# Altium schematic symbol library IC.SchLib: 8 symbols
Pins are listed as number, name and electrical type; pins without a type are passive.

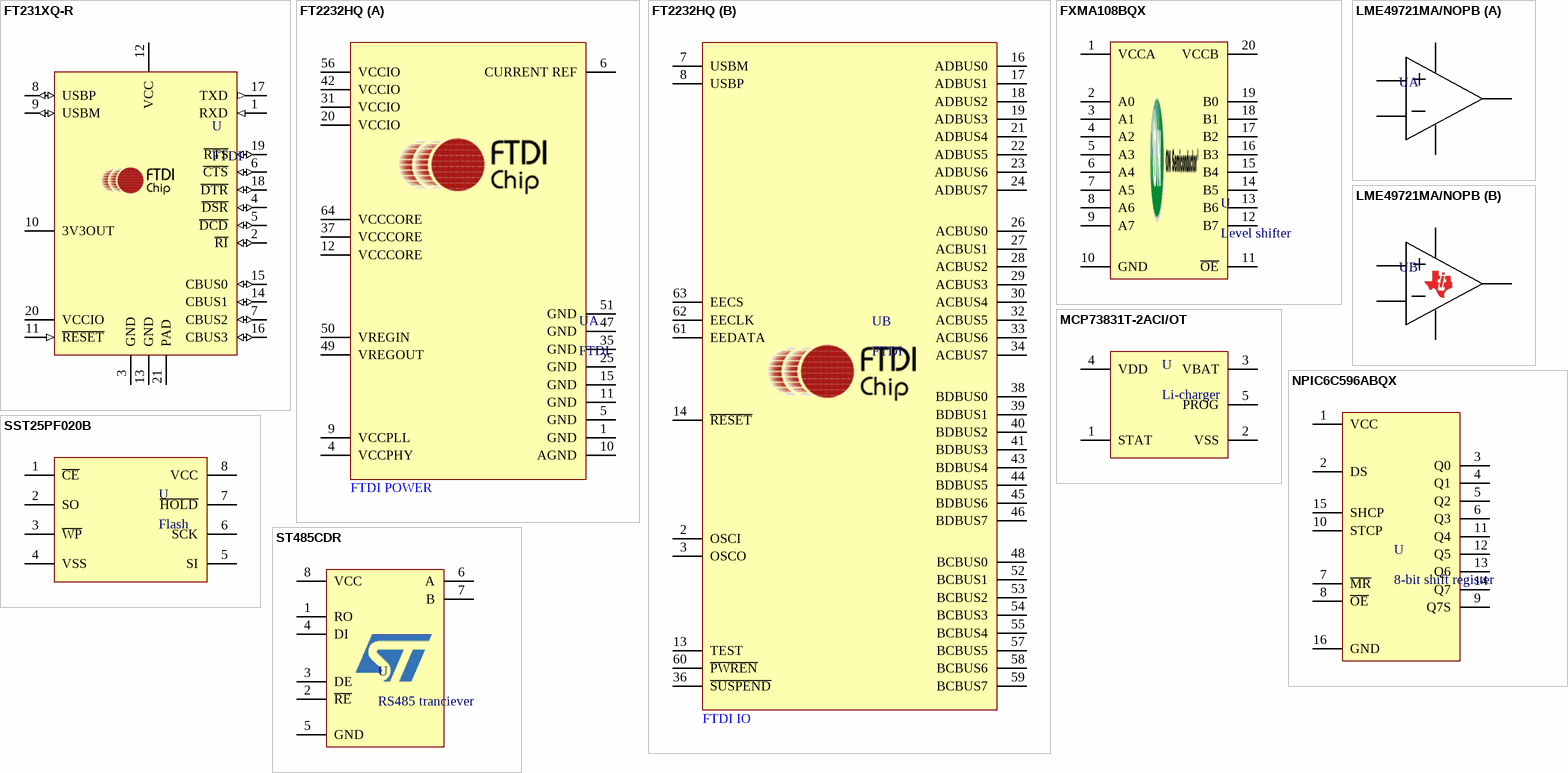
[diagram p0: symbols FT231XQ-R to ST485CDR]

## FT231XQ-R
designator U, comment FTDI
UART to USB converter
footprint FT231XQ-R (QFN, 20-Leads, Body 4.00x4.00mm, Pitch 0.50mm, Thermal Pad 1.98x1.98mm, IPC Medium Density)
pins: 1 RXD (in), 2 ~{RI} (io), 3 GND, 4 ~{DSR} (io), 5 ~{DCD} (io), 6 ~{CTS} (io), 7 CBUS2 (io), 8 USBP (io), 9 USBM (io), 10 3V3OUT, 11 ~{RESET} (in), 12 VCC, 13 GND, 14 CBUS1 (io), 15 CBUS0 (io), 16 CBUS3 (io), 17 TXD (out), 18 ~{DTR} (io), 19 ~{RTS} (io), 20 VCCIO, 21 PAD

## FT2232HQ
designator U, comment FTDI
FT2232HQ
footprint FT2232HQ (QFN, 64-Leads, Body 9.00x9.00mm, Pitch 0.50mm, Thermal Pad 4.35x4.35mm, IPC Medium Density)
part A pins: 1 GND, 4 VCCPHY, 5 GND, 6 CURRENT REF, 9 VCCPLL, 10 AGND, 11 GND, 12 VCCCORE, 15 GND, 20 VCCIO, 25 GND, 31 VCCIO, 35 GND, 37 VCCCORE, 42 VCCIO, 47 GND, 49 VREGOUT, 50 VREGIN, 51 GND, 56 VCCIO, 64 VCCCORE
part B pins: 2 OSCI, 3 OSCO, 7 USBM, 8 USBP, 13 TEST, 14 ~{RESET}, 16 ADBUS0, 17 ADBUS1, 18 ADBUS2, 19 ADBUS3, 21 ADBUS4, 22 ADBUS5, 23 ADBUS6, 24 ADBUS7, 26 ACBUS0, 27 ACBUS1, 28 ACBUS2, 29 ACBUS3, 30 ACBUS4, 32 ACBUS5, 33 ACBUS6, 34 ACBUS7, 36 ~{SUSPEND}, 38 BDBUS0, 39 BDBUS1, 40 BDBUS2, 41 BDBUS3, 43 BDBUS4, 44 BDBUS5, 45 BDBUS6, 46 BDBUS7, 48 BCBUS0, 52 BCBUS1, 53 BCBUS2, 54 BCBUS3, 55 BCBUS4, 57 BCBUS5, 58 BCBUS6, 59 BCBUS7, 60 ~{PWREN}, 61 EEDATA, 62 EECLK, 63 EECS
part A text: FTDI POWER
part B text: FTDI IO

## FXMA108BQX
designator U, comment Level shifter
8-bit bidirectional level shifter
footprint FXMA108BQX (QFN, 20-Leads, Body 2.50x4.50mm, Pitch 0.50mm, Thermal Pad 1.00x2.90mm, IPC Medium Density)
pins: 1 VCCA, 2 A0, 3 A1, 4 A2, 5 A3, 6 A4, 7 A5, 8 A6, 9 A7, 10 GND, 11 ~{OE}, 12 B7, 13 B6, 14 B5, 15 B4, 16 B3, 17 B2, 18 B1, 19 B0, 20 VCCB

## LME49721MA/NOPB
designator U
Audio OP amp, single supply, low voltage
footprint LME49721MA/NOPB (SOIC, 8-Leads, Body 4.91x3.90mm, Pitch 1.27mm, IPC Medium Density)
part A pins: 1 VDD, 2 VDD, 3 VDD, 4 VDD, 8 VDD
part B pins: 4 VDD, 5 VDD, 6 VDD, 7 VDD, 8 VDD
part A text: +; _
part B text: +; _

## MCP73831T-2ACI/OT
designator U, comment Li-charger
Li-Ion Charger IC, Single cell
footprint MCP73831 (SOT23, 5-Leads, Body 2.90x2.70mm, Pitch 0.95mm, IPC Medium Density)
pins: 1 STAT, 2 VSS, 3 VBAT, 4 VDD, 5 PROG

## NPIC6C596ABQX
designator U, comment 8-bit shift register
8-bit shift register, serial to parallel/serial
footprint NPIC6C596ABQX (QFN, 16-Leads, Body 2.50x3.50mm, Pitch 0.50mm, Thermal Pad 1.00x2.00mm, IPC Medium Density)
pins: 1 VCC, 2 DS, 3 Q0, 4 Q1, 5 Q2, 6 Q3, 7 ~{MR}, 8 ~{OE}, 9 Q7S, 10 STCP, 11 Q4, 12 Q5, 13 Q6, 14 Q7, 15 SHCP, 16 GND

## SST25PF020B
designator U, comment Flash
Serial NOR Flash, 2Mbit, 256K x 8bit
footprint SST25PF020B
pins: 1 ~{CE}, 2 SO, 3 ~{WP}, 4 VSS, 5 SI, 6 SCK, 7 ~{HOLD}, 8 VCC

## ST485CDR
designator U, comment RS485 tranciever
footprint ST485CDR (SOIC, 8-Leads, Body 4.90x3.90mm, Pitch 1.27mm, IPC Medium Density)
pins: 1 RO, 2 ~{RE}, 3 DE, 4 DI, 5 GND, 6 A, 7 B, 8 VCC